# EAGLE library part TA8229K (library Audio-Power-amlifier V.2.0)
TA8229K is an audio power IC with built-in two channels developed for portable radio cassette tape recorder with power ON/OFF switch. Thermal shut down protection circuit is built in.
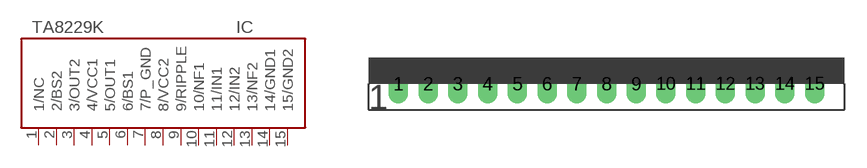
[diagram p162: symbol with the pads of HSIP15-P-2.00A; footprint HSIP15-P-2.00A]

Designator prefix IC

## TA8229K  [HSIP15-P-2.00A]
1  1/NC  nc
2  2/BS2  out
3  3/OUT2  out
4  4/VCC1  pwr
5  5/OUT1  out
6  6/BS1  out
7  7/P_GND  pwr
8  8/VCC2  pwr
9  9/RIPPLE
10  10/NF1  in
11  11/IN1  in
12  12/IN2  in
13  13/NF2  in
14  14/GND1  pwr
15  15/GND2  pwr

## Footprint HSIP15-P-2.00A (pad centres in mm)
drill 0.8 long: 1 -13.97,-1.27; 2 -11.97,-1.27; 3 -9.97,-1.27; 4 -7.97,-1.27; 5 -5.97,-1.27; 6 -3.97,-1.27; 7 -1.97,-1.27; 8 0.03,-1.27; 9 2.03,-1.27; 10 4.03,-1.27; 11 6.03,-1.27; 12 8.03,-1.27; 13 10.03,-1.27; 14 12.03,-1.27; 15 14.03,-1.27